# Altium schematic symbol library SN74AHC1G86DBVR.SchLib: 1 symbol
Pins are listed as number, name and electrical type; pins without a type are passive.

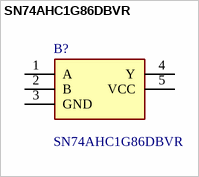
[diagram p0: symbol SN74AHC1G86DBVR]

## SN74AHC1G86DBVR
designator B?
Single 2-Input Exclusive-OR Gate; Manufacturer_Name: Texas Instruments; Geometry.Height: 1.45mm; Mouser Part Number: 595-SN74AHC1G86DBVR; Mouser Price/Stock: https://www.mouser.co.uk/ProductDetail/Texas-Instruments/SN74AHC1G86DBVR?qs=FetendrIl6titMlOx2mC4w%3D%3D; Manufacturer_Part_Number: SN74AHC1G86DBVR; Datasheet Link: http://www.ti.com/lit/gpn/sn74ahc1g86
footprint SOT95P280X145-5N
pins: 1 A, 2 B, 3 GND, 4 Y, 5 VCC